# EAGLE library part 10118193-0001LF (library 10118193-0001LF)
USB Connectors 5P MICRO USB TYPE B RECEPTACLE W/ PEGS Source: Datasheet <https://componentsearchengine.com/Datasheets/1/10118193-0001LF.pdf>
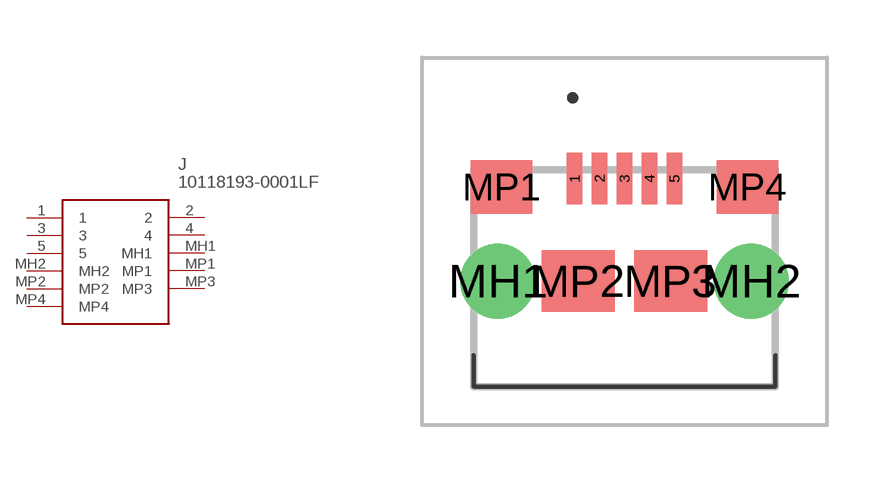
[diagram p0: symbol with the pads of 101181930001LF; footprint 101181930001LF]

Designator prefix J

## 10118193-0001LF (Allied_Number: 70236827; Allied_Price-Stock: https://www.alliedelec.com/amphenolicc-10118193-0001lf/70236827/; Description: USB Connectors 5P MICRO USB TYPE B RECEPTACLE W/ PEGS; Height: 3.1mm; Manufacturer_Name: Amphenol; Manufacturer_Part_Number: 10118193-0001LF; Mouser_Part_Number: 649-10118193-0001LF; Mouser_Price-Stock: https://www.mouser.com/Search/Refine.aspx?Keyword=649-10118193-0001LF; RS_Part_Number: 8632989; RS_Price-Stock: http://uk.rs-online.com/web/p/products/8632989)  [101181930001LF]
1  1
2  2
3  3
4  4
5  5
MH1  MH1
MH2  MH2
MP1  MP1
MP2  MP2
MP3  MP3
MP4  MP4

## Footprint 101181930001LF (pad centres in mm)
10118193-0001LF-1
smd 0.4 x 1.35: 1 -1.3,2.6; 2 -0.65,2.6; 3 0,2.6; 4 0.65,2.6; 5 1.3,2.6
drill 1.3 pad 1.95: MH1 -3.3,-0.075; MH2 3.3,-0.075
smd 1.6 x 1.4: MP1 -3.2,2.375; MP4 3.2,2.375
smd 1.9 x 1.6: MP2 -1.2,-0.075; MP3 1.2,-0.075